# Altium footprint library LMV321ILT.PcbLib: 3 footprints
Each footprint in its own frame and in the unit in brackets; x right, y up, seen from the top. Pads: shape width x height; smd on the part's side, far side on the other; paste and mask are expansions set on the pad; w line width, h text height; cw(c..) or ccw(c..) is an arc to the next point about the centre after c.
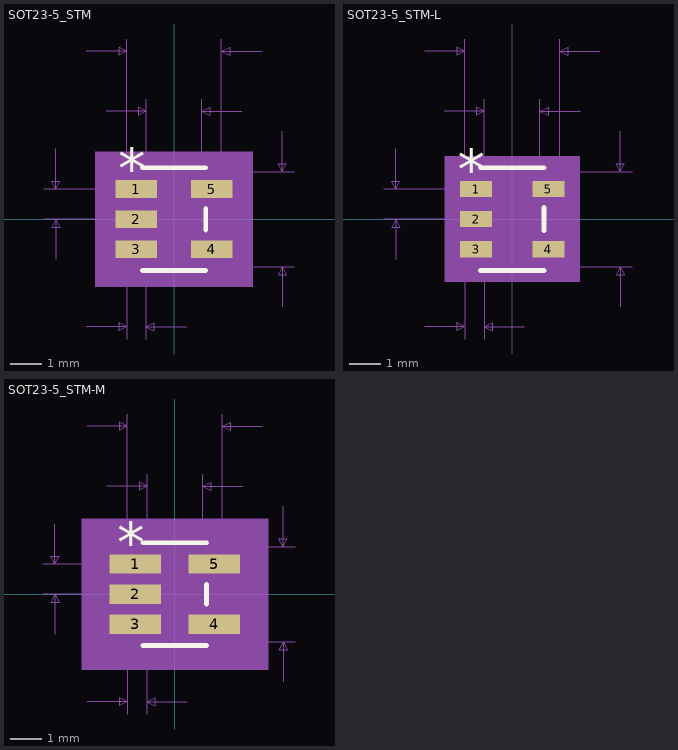
[diagram p0: the footprints below, top view; thin cyan lines are the x and y axes]

## SOT23-5_STM [mil]
pads (5):
  rect 52x22 smd paste+0 mask+0: 1(-47,37.4) 2(-47,0) 3(-47,-37.4) 4(47,-37.4) 5(47,37.4)
Top Overlay:
  lines w6: -39.5,-64 39.5,-64 ; -39.5,64 39.5,64 ; 39.5,-13.3 39.5,13.3
  text "*" at -69.5,38.4 h50
Mechanical 5:
  region: 98,-84 98,84 -98,84 -98,-84
Mechanical 7:
  lines w1: -162,0 -47,0 ; -162,37.4 -47,37.4 ; -147,-50 -147,0 ; -147,87.4 -147,37.4 ; -109,-134 -59,-134 ; -109,209 -59,209 ; -84.5,134 -34.5,134 ; -59,-149 -59,0 -59,224 ; -35,-149 -35,0 ; -34.5,0 -34.5,149 ; 0,-59 149.5,-59 ; 0,59 149.5,59 ; 15,-134 -35,-134 ; 34.5,0 34.5,149 ; 59,0 59,224 ; 84.5,134 34.5,134 ; 109,209 59,209 ; 134.5,-109 134.5,-59 ; 134.5,109 134.5,59 ; -147,0 -152,-10 -142,-10 -147,0 ; -147,37.4 -152,47.4 -142,47.4 -147,37.4 ; -59,-134 -69,-129 -69,-139 -59,-134 ; -59,209 -69,214 -69,204 -59,209 ; -35,-134 -25,-129 -25,-139 -35,-134 ; -34.5,134 -44.5,139 -44.5,129 -34.5,134 ; 34.5,134 44.5,139 44.5,129 34.5,134 ; 59,209 69,214 69,204 59,209 ; 134.5,-59 129.5,-69 139.5,-69 134.5,-59 ; 134.5,59 129.5,69 139.5,69 134.5,59
  text "Default Padstyle: RX52Y22D0T" at -350,-259 h50
  text "Alt 1 Padstyle: OX60Y90D30P" at -337.5,-379 h50
  text "Alt 2 Padstyle: OX90Y60D30P" at -337.5,-439 h50
  text "0.069in/1.753mm" at -93.75,154 h25
  text "0.118in/2.997mm" at -93.75,229 h25
  text "0.118in/2.997mm" at 154.5,-12.5 h25
  text "0.037in/0.95mm" at -342,6.2 h25
  text "0.024in/0.61mm" at -134.5,-179 h25
Mechanical 13:
  lines w1: -59,-47.4 -59,-27.4 -34.5,-27.4 -34.5,-47.4 -59,-47.4 ; -59,-10 -59,10 -34.5,10 -34.5,-10 -59,-10 ; -59,27.4 -59,47.4 -34.5,47.4 -34.5,27.4 -59,27.4 ; -34.5,-59 34.5,-59 34.5,59 -34.5,59 -34.5,-59 ; 34.5,-47.4 34.5,-27.4 59,-27.4 59,-47.4 34.5,-47.4 ; 34.5,27.4 34.5,47.4 59,47.4 59,27.4 34.5,27.4
  text "*" at -37,18.4 h50
Mechanical 15:
  region: 44.5,-69 -44.5,-69 -44.5,-58.4 -84,-58.4 -84,58.4 -44.5,58.4 -44.5,69 44.5,69 44.5,58.4 84,58.4 84,-58.4 44.5,-58.4
  lines w6: -84,-58.4 -44.5,-58.4 -44.5,-69 44.5,-69 44.5,-58.4 84,-58.4 84,58.4 44.5,58.4 44.5,69 -44.5,69 -44.5,58.4 -84,58.4 -84,-58.4
3D body: height 10, standoff 0, extent 0,0 10,10

## SOT23-5_STM-L [mil]
pads (5):
  rect 40x20 smd paste+0 mask+0: 1(-45,37.4) 2(-45,0) 3(-45,-37.4) 4(45,-37.4) 5(45,37.4)
Top Overlay:
  lines w6: -39.5,-64 39.5,-64 ; -39.5,64 39.5,64 ; 39.5,-14.3 39.5,14.3
  text "*" at -67.5,37.4 h50
Mechanical 5:
  region: 84,-78 84,78 -84,78 -84,-78
Mechanical 7:
  lines w1: -160,0 -45,0 ; -160,37.4 -45,37.4 ; -145,-50 -145,0 ; -145,87.4 -145,37.4 ; -109,-134 -59,-134 ; -109,209 -59,209 ; -84.5,134 -34.5,134 ; -59,-149 -59,0 -59,224 ; -35,-149 -35,0 ; -34.5,0 -34.5,149 ; 0,-59 149.5,-59 ; 0,59 149.5,59 ; 15,-134 -35,-134 ; 34.5,0 34.5,149 ; 59,0 59,224 ; 84.5,134 34.5,134 ; 109,209 59,209 ; 134.5,-109 134.5,-59 ; 134.5,109 134.5,59 ; -145,0 -150,-10 -140,-10 -145,0 ; -145,37.4 -150,47.4 -140,47.4 -145,37.4 ; -59,-134 -69,-129 -69,-139 -59,-134 ; -59,209 -69,214 -69,204 -59,209 ; -35,-134 -25,-129 -25,-139 -35,-134 ; -34.5,134 -44.5,139 -44.5,129 -34.5,134 ; 34.5,134 44.5,139 44.5,129 34.5,134 ; 59,209 69,214 69,204 59,209 ; 134.5,-59 129.5,-69 139.5,-69 134.5,-59 ; 134.5,59 129.5,69 139.5,69 134.5,59
  text "Default Padstyle: RX40Y20D0T" at -350,-259 h50
  text "Alt 1 Padstyle: OX60Y90D30P" at -337.5,-379 h50
  text "Alt 2 Padstyle: OX90Y60D30P" at -337.5,-439 h50
  text "0.069in/1.753mm" at -93.75,154 h25
  text "0.118in/2.997mm" at -93.75,229 h25
  text "0.118in/2.997mm" at 154.5,-12.5 h25
  text "0.037in/0.95mm" at -340,6.2 h25
  text "0.024in/0.61mm" at -134.5,-179 h25
Mechanical 13:
  lines w1: -59,-47.4 -59,-27.4 -34.5,-27.4 -34.5,-47.4 -59,-47.4 ; -59,-10 -59,10 -34.5,10 -34.5,-10 -59,-10 ; -59,27.4 -59,47.4 -34.5,47.4 -34.5,27.4 -59,27.4 ; -34.5,-59 34.5,-59 34.5,59 -34.5,59 -34.5,-59 ; 34.5,-47.4 34.5,-27.4 59,-27.4 59,-47.4 34.5,-47.4 ; 34.5,27.4 34.5,47.4 59,47.4 59,27.4 34.5,27.4
  text "*" at -37,17.4 h50
Mechanical 15:
  region: 38.5,-63 -38.5,-63 -38.5,-51.4 -69,-51.4 -69,51.4 -38.5,51.4 -38.5,63 38.5,63 38.5,51.4 69,51.4 69,-51.4 38.5,-51.4
  lines w6: -69,-51.4 -38.5,-51.4 -38.5,-63 38.5,-63 38.5,-51.4 69,-51.4 69,51.4 38.5,51.4 38.5,63 -38.5,63 -38.5,51.4 -69,51.4 -69,-51.4
3D body: height 10, standoff 0, extent 0,0 10,10

## SOT23-5_STM-M [mil]
pads (5):
  rect 64x24 smd paste+0 mask+0: 1(-49,37.4) 2(-49,0) 3(-49,-37.4) 4(49,-37.4) 5(49,37.4)
Top Overlay:
  lines w6: -39.5,-64 39.5,-64 ; -39.5,64 39.5,64 ; 39.5,-12.3 39.5,12.3
  text "*" at -71.5,39.4 h50
Mechanical 5:
  region: 116,-94 116,94 -116,94 -116,-94
Mechanical 7:
  lines w1: -164,0 -49,0 ; -164,37.4 -49,37.4 ; -149,-50 -149,0 ; -149,87.4 -149,37.4 ; -109,-134 -59,-134 ; -109,209 -59,209 ; -84.5,134 -34.5,134 ; -59,-149 -59,0 -59,224 ; -35,-149 -35,0 ; -34.5,0 -34.5,149 ; 0,-59 149.5,-59 ; 0,59 149.5,59 ; 15,-134 -35,-134 ; 34.5,0 34.5,149 ; 59,0 59,224 ; 84.5,134 34.5,134 ; 109,209 59,209 ; 134.5,-109 134.5,-59 ; 134.5,109 134.5,59 ; -149,0 -154,-10 -144,-10 -149,0 ; -149,37.4 -154,47.4 -144,47.4 -149,37.4 ; -59,-134 -69,-129 -69,-139 -59,-134 ; -59,209 -69,214 -69,204 -59,209 ; -35,-134 -25,-129 -25,-139 -35,-134 ; -34.5,134 -44.5,139 -44.5,129 -34.5,134 ; 34.5,134 44.5,139 44.5,129 34.5,134 ; 59,209 69,214 69,204 59,209 ; 134.5,-59 129.5,-69 139.5,-69 134.5,-59 ; 134.5,59 129.5,69 139.5,69 134.5,59
  text "Default Padstyle: RX64Y24D0T" at -350,-259 h50
  text "Alt 1 Padstyle: OX60Y90D30P" at -337.5,-379 h50
  text "Alt 2 Padstyle: OX90Y60D30P" at -337.5,-439 h50
  text "0.069in/1.753mm" at -93.75,154 h25
  text "0.118in/2.997mm" at -93.75,229 h25
  text "0.118in/2.997mm" at 154.5,-12.5 h25
  text "0.037in/0.95mm" at -344,6.2 h25
  text "0.024in/0.61mm" at -134.5,-179 h25
Mechanical 13:
  lines w1: -59,-47.4 -59,-27.4 -34.5,-27.4 -34.5,-47.4 -59,-47.4 ; -59,-10 -59,10 -34.5,10 -34.5,-10 -59,-10 ; -59,27.4 -59,47.4 -34.5,47.4 -34.5,27.4 -59,27.4 ; -34.5,-59 34.5,-59 34.5,59 -34.5,59 -34.5,-59 ; 34.5,-47.4 34.5,-27.4 59,-27.4 59,-47.4 34.5,-47.4 ; 34.5,27.4 34.5,47.4 59,47.4 59,27.4 34.5,27.4
  text "*" at -37,19.4 h50
Mechanical 15:
  region: 54.5,-79 -54.5,-79 -54.5,-69.4 -109,-69.4 -109,69.4 -54.5,69.4 -54.5,79 54.5,79 54.5,69.4 109,69.4 109,-69.4 54.5,-69.4
  lines w6: -109,-69.4 -54.5,-69.4 -54.5,-79 54.5,-79 54.5,-69.4 109,-69.4 109,69.4 54.5,69.4 54.5,79 -54.5,79 -54.5,69.4 -109,69.4 -109,-69.4
3D body: height 10, standoff 0, extent 0,0 10,10